# Altium schematic symbol library 621 0xx 210 21.SchLib: 10 symbols
Pins are listed as number, name and electrical type; pins without a type are passive.

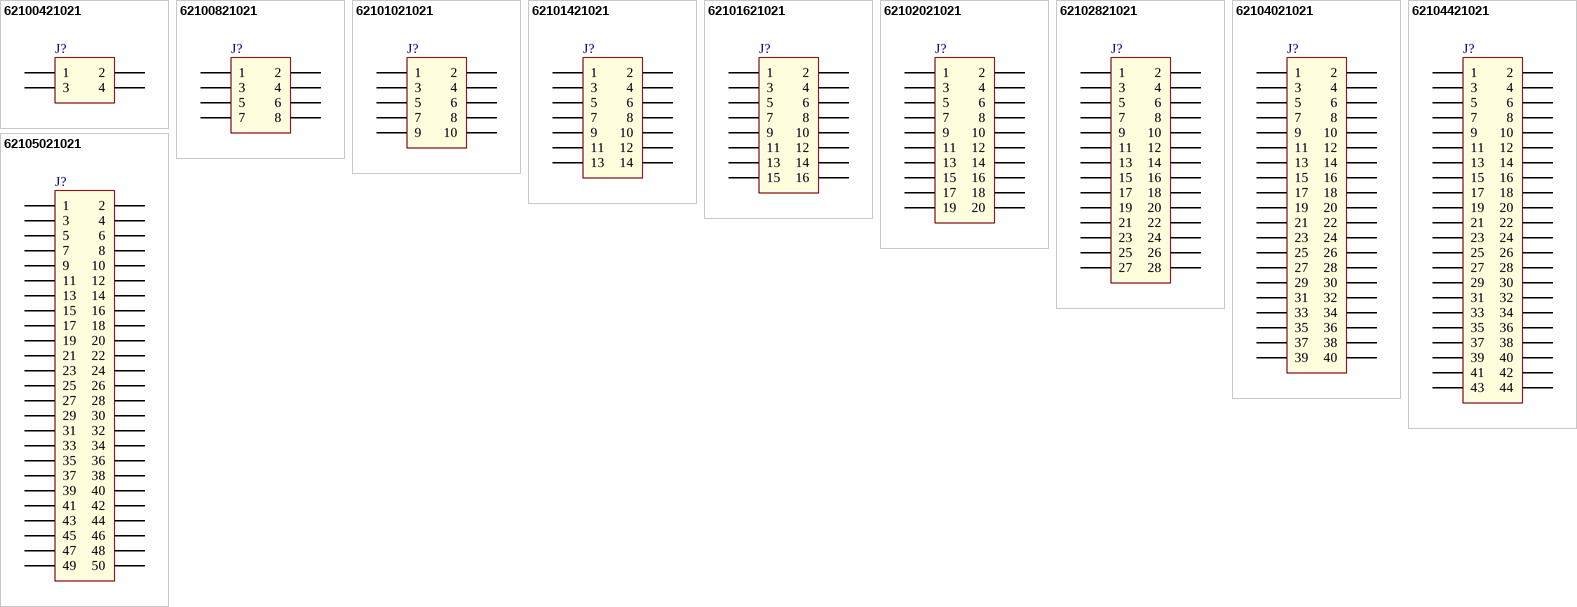
[diagram p0: symbols 62100421021 to 62105021021]

## 62100421021
designator J?
WR-PHD 1.27 mm SMD Dual Pin Header, H=3.80mm, 4p; Part Number: 62100421021; Pitch: 1.27 mm; Pin Number: 4; ComponentLink1Description: Manufacturer; ComponentLink1URL: http://www.we-online.de; ComponentLink2Description: Datasheet; ComponentLink2URL: http://katalog.we-online.de/em/datasheet/6210xx21021.pdf; Published Date: April 2017; Publisher: Wurth Elektronik
footprint 62100421021 (SMD Dual Pin Header, H=3.80mm, 4p)
pins: 1, 2, 3, 4

## 62100821021
designator J?
WR-PHD 1.27 mm SMD Dual Pin Header, H=3.80mm, 8p; Part Number: 62100821021; Pitch: 1.27 mm; Pin Number: 8; ComponentLink1Description: Manufacturer; ComponentLink1URL: http://www.we-online.de; ComponentLink2Description: Datasheet; ComponentLink2URL: http://katalog.we-online.de/em/datasheet/6210xx21021.pdf; Published Date: April 2017; Publisher: Wurth Elektronik
footprint 62100821021 (SMD Dual Pin Header, H=3.80mm, 8p)
pins: 1, 2, 3, 4, 5, 6, 7, 8

## 62101021021
designator J?
WR-PHD 1.27 mm SMD Dual Pin Header, H=3.80mm, 10p; Part Number: 62101021021; Pitch: 1.27 mm; Pin Number: 10; ComponentLink1Description: Manufacturer; ComponentLink1URL: http://www.we-online.de; ComponentLink2Description: Datasheet; ComponentLink2URL: http://katalog.we-online.de/em/datasheet/6210xx21021.pdf; Published Date: April 2017; Publisher: Wurth Elektronik
footprint 62101021021 (SMD Dual Pin Header, H=3.80mm, 10p)
pins: 1, 2, 3, 4, 5, 6, 7, 8, 9, 10

## 62101421021
designator J?
WR-PHD 1.27 mm SMD Dual Pin Header, H=3.80mm, 14p; Part Number: 62101421021; Pitch: 1.27 mm; Pin Number: 14; ComponentLink1Description: Manufacturer; ComponentLink1URL: http://www.we-online.de; ComponentLink2Description: Datasheet; ComponentLink2URL: http://katalog.we-online.de/em/datasheet/6210xx21021.pdf; Published Date: April 2017; Publisher: Wurth Elektronik
footprint 62101421021 (SMD Dual Pin Header, H=3.80mm, 14p)
pins: 1, 2, 3, 4, 5, 6, 7, 8, 9, 10, 11, 12, 13, 14

## 62101621021
designator J?
WR-PHD 1.27 mm SMD Dual Pin Header, H=3.80mm, 16p; Part Number: 62101621021; Pitch: 1.27 mm; Pin Number: 16; ComponentLink1Description: Manufacturer; ComponentLink1URL: http://www.we-online.de; ComponentLink2Description: Datasheet; ComponentLink2URL: http://katalog.we-online.de/em/datasheet/6210xx21021.pdf; Published Date: April 2017; Publisher: Wurth Elektronik
footprint 62101621021 (SMD Dual Pin Header, H=3.80mm, 16p)
pins: 1, 2, 3, 4, 5, 6, 7, 8, 9, 10, 11, 12, 13, 14, 15, 16

## 62102021021
designator J?
WR-PHD 1.27 mm SMD Dual Pin Header, H=3.80mm, 20p; Part Number: 62102021021; Pitch: 1.27 mm; Pin Number: 20; ComponentLink1Description: Manufacturer; ComponentLink1URL: http://www.we-online.de; ComponentLink2Description: Datasheet; ComponentLink2URL: http://katalog.we-online.de/em/datasheet/6210xx21021.pdf; Published Date: April 2017; Publisher: Wurth Elektronik
footprint 62102021021 (SMD Dual Pin Header, H=3.80mm, 20p)
pins: 1, 2, 3, 4, 5, 6, 7, 8, 9, 10, 11, 12, 13, 14, 15, 16, 17, 18, 19, 20

## 62102821021
designator J?
WR-PHD 1.27 mm SMD Dual Pin Header, H=3.80mm, 28p; Part Number: 62102821021; Pitch: 1.27 mm; Pin Number: 28; ComponentLink1Description: Manufacturer; ComponentLink1URL: http://www.we-online.de; ComponentLink2Description: Datasheet; ComponentLink2URL: http://katalog.we-online.de/em/datasheet/6210xx21021.pdf; Published Date: April 2017; Publisher: Wurth Elektronik
footprint 62102821021 (SMD Dual Pin Header, H=3.80mm, 28p)
pins: 1, 2, 3, 4, 5, 6, 7, 8, 9, 10, 11, 12, 13, 14, 15, 16, 17, 18, 19, 20, 21, 22, 23, 24, 25, 26, 27, 28

## 62104021021
designator J?
WR-PHD 1.27 mm SMD Dual Pin Header, H=3.80mm, 40p; Part Number: 62104021021; Pitch: 1.27 mm; Pin Number: 40; ComponentLink1Description: Manufacturer; ComponentLink1URL: http://www.we-online.de; ComponentLink2Description: Datasheet; ComponentLink2URL: http://katalog.we-online.de/em/datasheet/6210xx21021.pdf; Published Date: April 2017; Publisher: Wurth Elektronik
footprint 62104021021 (SMD Dual Pin Header, H=3.80mm, 40p)
pins: 1, 2, 3, 4, 5, 6, 7, 8, 9, 10, 11, 12, 13, 14, 15, 16, 17, 18, 19, 20, 21, 22, 23, 24, 25, 26, 27, 28, 29, 30, 31, 32, 33, 34, 35, 36, 37, 38, 39, 40

## 62104421021
designator J?
WR-PHD 1.27 mm SMD Dual Pin Header, H=3.80mm, 44p; Part Number: 62104421021; Pitch: 1.27 mm; Pin Number: 44; ComponentLink1Description: Manufacturer; ComponentLink1URL: http://www.we-online.de; ComponentLink2Description: Datasheet; ComponentLink2URL: http://katalog.we-online.de/em/datasheet/6210xx21021.pdf; Published Date: April 2017; Publisher: Wurth Elektronik
footprint 62104421021 (SMD Dual Pin Header, H=3.80mm, 44p)
pins: 1, 2, 3, 4, 5, 6, 7, 8, 9, 10, 11, 12, 13, 14, 15, 16, 17, 18, 19, 20, 21, 22, 23, 24, 25, 26, 27, 28, 29, 30, 31, 32, 33, 34, 35, 36, 37, 38, 39, 40, 41, 42, 43, 44

## 62105021021
designator J?
WR-PHD 1.27 mm SMD Dual Pin Header, H=3.80mm, 50p; Part Number: 62105021021; Pitch: 1.27 mm; Pin Number: 50; ComponentLink1Description: Manufacturer; ComponentLink1URL: http://www.we-online.de; ComponentLink2Description: Datasheet; ComponentLink2URL: http://katalog.we-online.de/em/datasheet/6210xx21021.pdf; Published Date: April 2017; Publisher: Wurth Elektronik
footprint 62105021021 (SMD Dual Pin Header, H=3.80mm, 50p)
pins: 1, 2, 3, 4, 5, 6, 7, 8, 9, 10, 11, 12, 13, 14, 15, 16, 17, 18, 19, 20, 21, 22, 23, 24, 25, 26, 27, 28, 29, 30, 31, 32, 33, 34, 35, 36, 37, 38, 39, 40, 41, 42, 43, 44, 45, 46, 47, 48, 49, 50